# Altium footprint library SM_SOIC-8-5.3mm-N.PcbLib: 1 footprints
Each footprint in its own frame and in the unit in brackets; x right, y up, seen from the top. Pads: shape width x height; smd on the part's side, far side on the other; paste and mask are expansions set on the pad; w line width, h text height; cw(c..) or ccw(c..) is an arc to the next point about the centre after c.
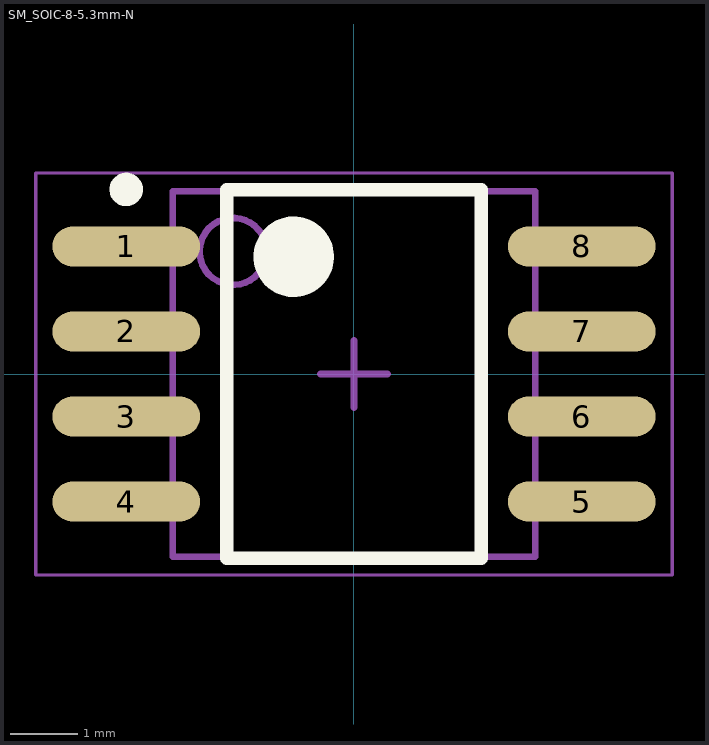
[diagram p0: the footprint, top view; thin cyan lines are the x and y axes]

## SM_SOIC-8-5.3mm-N [mm] "SOP, 8-Leads, Body 5.3x5.3mm, Pitch 1.27mm, IPC Medium Density"
height 2.13
pads (8):
  oval 2.2x0.6 smd: 1(-3.4,1.905) 2(-3.4,0.635) 3(-3.4,-0.635) 4(-3.4,-1.905) 5(3.4,-1.905) 6(3.4,-0.635) 7(3.4,0.635) 8(3.4,1.905)
Top Overlay:
  circle w0.25: c-3.4,2.755 r0.125
  circle w0.6: c-0.9,1.75 r0.3
  lines w0.2: -1.9,-2.75 -1.9,2.75 1.9,2.75 1.9,-2.75 -1.9,-2.75
Mechanical 13:
  circle w0.1: c-1.805,1.83 r0.5
  lines w0.1: -2.705,-2.73 -2.705,2.73 2.705,2.73 2.705,-2.73 -2.705,-2.73
Mechanical 15:
  lines w0.05: -4.75,-3 -4.75,3 4.75,3 4.75,-3 -4.75,-3
  lines w0.1: -0.5,0 0.5,0 ; 0,-0.5 0,0.5
3D body: height 2.13, standoff 0.05, extent -2.705,-2.73 2.705,2.73